# Altium schematic symbol library CDRH127-221M.SchLib: 1 symbol
Pins are listed as number, name and electrical type; pins without a type are passive.

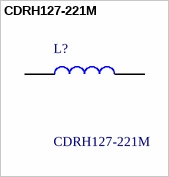
[diagram p0: symbol CDRH127-221M]

## CDRH127-221M
designator L?
IINDUCTOR POWER 220uH, 1.45A, 12X12X8mm SMD; Manufacturer_Name: Galaxy; Geometry.Height: 8mm; Manufacturer_Part_Number: CDRH127-221M; Mouser Part Number: *; Mouser Price/Stock: *; Arrow Part Number: *; Arrow Price/Stock: *; Datasheet Link: https://www.mouser.com/datasheet/2/390/CDRH127,127LD-514245.pdf
footprint CDRH127221M
pins: 1, 2